# EAGLE library part BACKPLANE_CONTROLLER_MODULE (library signpost)
Signpost controller recepticle
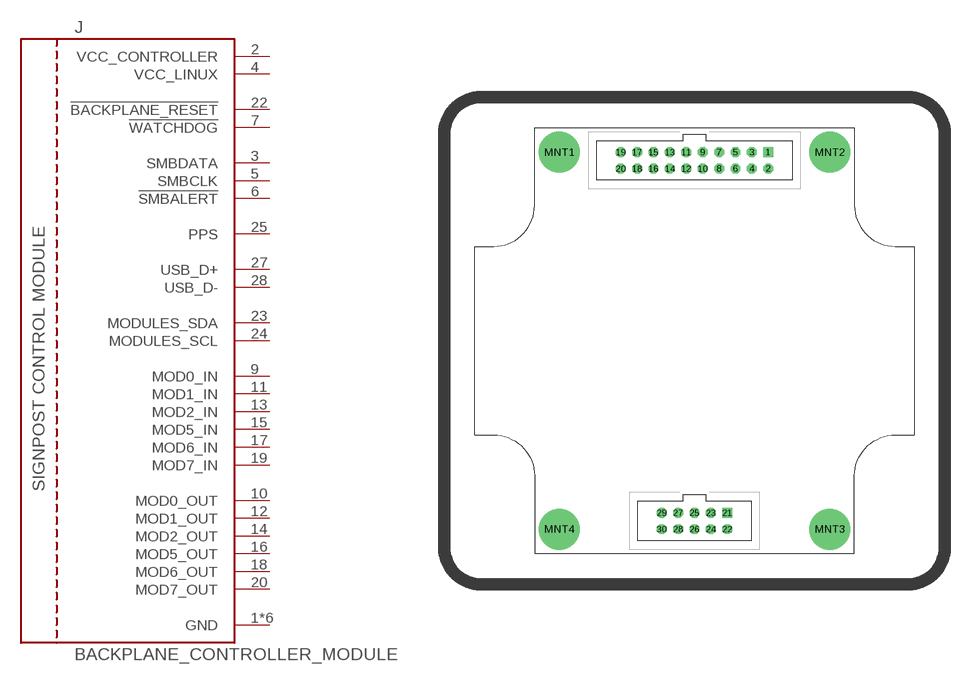
[diagram p1: symbol with the pads of BACKPLANE_MODULE_20PIN_10PIN; footprint BACKPLANE_MODULE_20PIN_10PIN]

Designator prefix J

## BACKPLANE_CONTROLLER_MODULE (DIGIKEY: S9197-ND; DIGIKEY2: S9194-ND)  [BACKPLANE_MODULE_20PIN_10PIN]
1  GND
2  VCC_CONTROLLER
3  SMBDATA
4  VCC_LINUX
5  SMBCLK
6  !SMBALERT
7  !WATCHDOG
9  MOD0_IN
10  MOD0_OUT
11  MOD1_IN
12  MOD1_OUT
13  MOD2_IN
14  MOD2_OUT
15  MOD5_IN
16  MOD5_OUT
17  MOD6_IN
18  MOD6_OUT
19  MOD7_IN
20  MOD7_OUT
21  GND
22  !BACKPLANE_RESET
23  MODULES_SDA
24  MODULES_SCL
25  PPS
27  USB_D+
28  USB_D-
MNT1  GND
MNT2  GND
MNT3  GND
MNT4  GND

## Footprint BACKPLANE_MODULE_20PIN_10PIN (pad centres in mm)
drill 1.016 square: 1 11.43,29.21; 21 5.08,-26.67
drill 1.016 octagon: 2 11.43,26.67; 3 8.89,29.21; 4 8.89,26.67; 5 6.35,29.21; 6 6.35,26.67; 7 3.81,29.21; 8 3.81,26.67; 9 1.27,29.21; 10 1.27,26.67; 11 -1.27,29.21; 12 -1.27,26.67; 13 -3.81,29.21; 14 -3.81,26.67; 15 -6.35,29.21; 16 -6.35,26.67; 17 -8.89,29.21; 18 -8.89,26.67; 19 -11.43,29.21; 20 -11.43,26.67; 22 5.08,-29.21; 23 2.54,-26.67; 24 2.54,-29.21; 25 0,-26.67; 26 0,-29.21; 27 -2.54,-26.67; 28 -2.54,-29.21; 29 -5.08,-26.67; 30 -5.08,-29.21
drill 2.946 pad 6.35: MNT1 -20.955,29.21; MNT2 20.955,29.21; MNT3 20.955,-29.21; MNT4 -20.955,-29.21